# Altium integrated library BAT-HLD-001.IntLib: 1 symbol
Pins are listed as number, name and electrical type; pins without a type are passive.

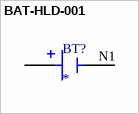
[diagram p0: symbol BAT-HLD-001]

## BAT-HLD-001
designator BT?
Battery Retainer Coin, 20.0mm 1 Cell SMD (SMT) Tab; MP: BAT-HLD-001; Value: *; Package: None; Availability: Unavailable; Price: None
footprint BAT_BAT-HLD-001
pins: N1 NEG, P1 POS, P2 POS